# EAGLE library part LIS3MDLTR (library Hocki_Library)
Magnetoresistive Sensor X, Y, Z Axis 12-LGA (2x2) DigiKey <https://www.digikey.com/en/products/detail/stmicroelectronics/LIS3MDLTR/4309733?s=N4IgjCBcpgnAHLKoDGUBmBDANgZwKYA0IA9lANogAMIAugL7EC0ATMiGpAC4BOArkVIUQAVjr1GINpErYAlrgDMdYgDZ2cgCZQQTMFQjEADlx0hiARy4BPHYZA2j%2BHZlxoJQA>
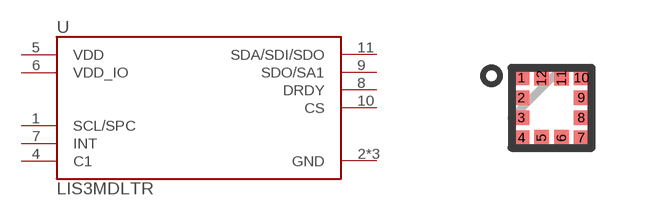
[diagram p16: symbol with the pads of LGA-12_2X2X1_STM; footprint LGA-12_2X2X1_STM]

Designator prefix U

## LIS3MDLTR (DKPN: 497-13892-1-ND)  [LGA-12_2X2X1_STM]
1  SCL/SPC  pas
2  GND  pas
3  GND  pas
4  C1  pas
5  VDD  pas
6  VDD_IO  pas
7  INT  pas
8  DRDY  pas
9  SDO/SA1  pas
10  CS  pas
11  SDA/SDI/SDO  pas
12  GND  pas

## Footprint LGA-12_2X2X1_STM (pad centres in mm)
https://www.st.com/content/ccc/resource/technical/document/datasheet/54/2a/85/76/e3/97/42/18/DM00075867.pdf/files/DM00075867.pdf/jcr:content/translations/en.DM00075867.pdf
smd 0.377 x 0.352: 1 -0.75,0.75; 2 -0.75,0.25; 3 -0.75,-0.25; 4 -0.75,-0.75; 7 0.75,-0.75; 8 0.75,-0.25; 9 0.75,0.25; 10 0.75,0.75
smd 0.352 x 0.377: 5 -0.25,-0.75; 6 0.25,-0.75; 11 0.25,0.75; 12 -0.25,0.75